# EAGLE library part ADT7467ARQZ (library On Semiconductor)
dBCool Remote Thermal Monitor and Fan Controller
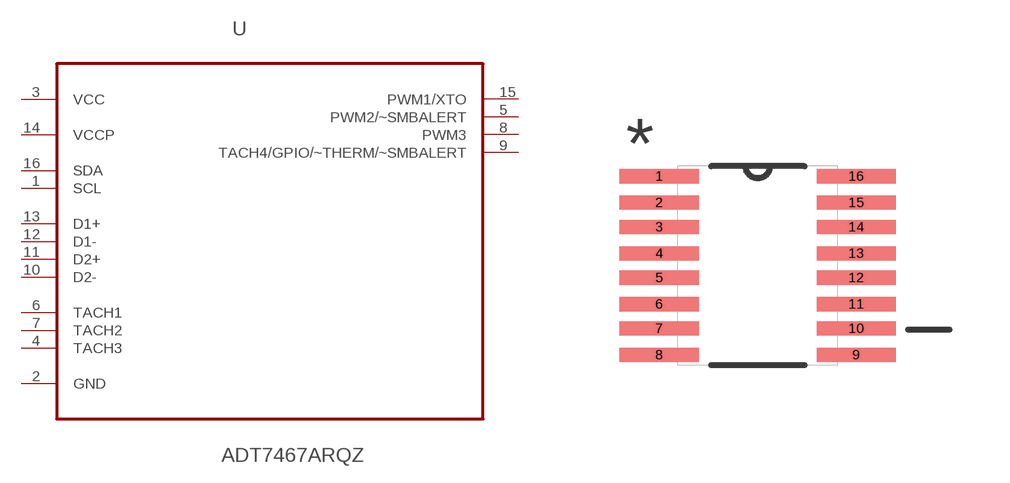
[diagram p8: symbol with the pads of SOP63P600X175-16N; footprint SOP63P600X175-16N]

Designator prefix U

## ADT7467ARQZ (MPN: ADT7467ARQZ; OC_FARNELL: 1536247; OC_NEWARK: 19M8744; PACKAGE: QSOP-16; SUPPLIER: ON SEMICONDUCTOR)  [SOP63P600X175-16N]
1  SCL  in
2  GND  pas
3  VCC  pwr
4  TACH3  in
5  PWM2/~SMBALERT  out
6  TACH1  in
7  TACH2  in
8  PWM3
9  TACH4/GPIO/~THERM/~SMBALERT
10  D2-  in
11  D2+  in
12  D1-  in
13  D1+  in
14  VCCP  pwr
15  PWM1/XTO  out
16  SDA

## Footprint SOP63P600X175-16N (pad centres in mm)
smd 1.981 x 0.356: 1 -2.464,2.235; 2 -2.464,1.575; 3 -2.464,0.965; 4 -2.464,0.305; 5 -2.464,-0.305; 6 -2.464,-0.965; 7 -2.464,-1.575; 8 -2.464,-2.235; 9 2.464,-2.235; 10 2.464,-1.575; 11 2.464,-0.965; 12 2.464,-0.305; 13 2.464,0.305; 14 2.464,0.965; 15 2.464,1.575; 16 2.464,2.235